# Altium schematic symbol library CMDD4448.Schlib: 1 symbol
Pins are listed as number, name and electrical type; pins without a type are passive.

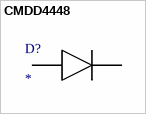
[diagram p0: symbol CMDD4448]

## CMDD4448
designator D?
Diode Schottky 60 V 1A (DC) Surface Mount SOD-123F
pins: 1, 2